# Altium footprint library 691137710002.PcbLib: 1 footprints
Each footprint in its own frame and in the unit in brackets; x right, y up, seen from the top. Pads: shape width x height; smd on the part's side, far side on the other; paste and mask are expansions set on the pad; w line width, h text height; cw(c..) or ccw(c..) is an arc to the next point about the centre after c.
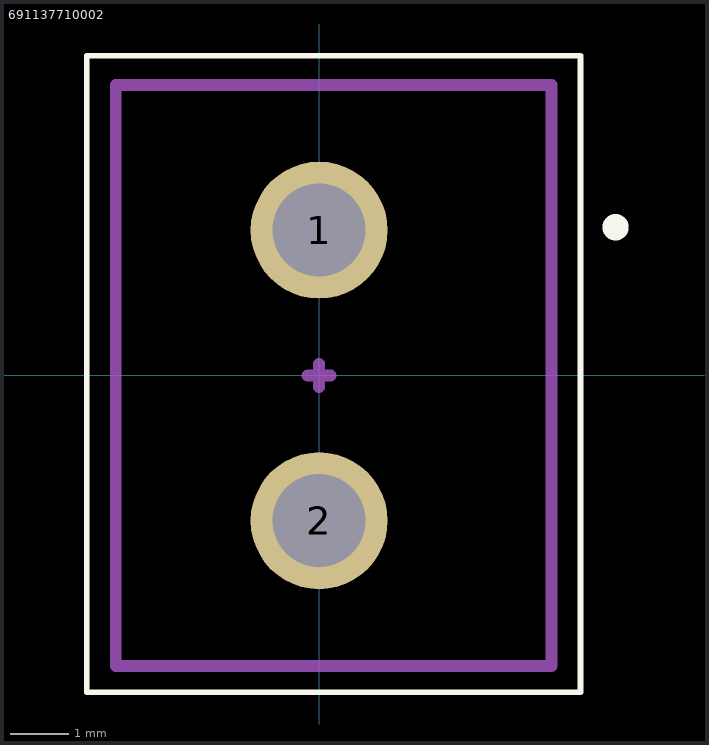
[diagram p0: the footprint, top view; thin cyan lines are the x and y axes]

## 691137710002 [mm]
height 11.5
pads (2):
  round 2.358 hole 1.6: 1(0,2.5) 2(0,-2.5)
Top Overlay:
  circle w0.254: c5.1,2.55 r0.1
  lines w0.1: -3.9,-5.45 0.35,-5.45 3.95,-5.45 4.5,-5.45 4.5,-4.8 ; -3.75,-5.45 -4,-5.45 -4,0.7 -4,3 -4,5.4 -4,5.5 3.75,5.5 4.5,5.5 4.5,4.65 ; 3.6,5.5 4.25,5.5 ; 4.5,-4.85 4.5,4.75
Mechanical 13:
  lines w0.203: -3.5,-3.65 -3.5,-2.6 -3.5,4.5 ; -3.5,-3.55 -3.5,-4.95 -3.5,-5 4,-5 4,-2.25 ; -3.5,4.4 -3.5,5 4,5 4,3.7 ; -3.45,5 -0.05,5 ; -0.4,-5 -0.1,-5 ; 4,-3 4,-2.5 ; 4,-2.55 4,3.8
Mechanical 15:
  lines w0.203: -0.2,0 0,0 ; 0,-0.2 0,0.2 0,0 ; 0.1,0 0.2,0 0,0
3D body "691137710002.stp": height 11.51, standoff -3.59, extent -3.5,-5 4,5